# Altium integrated library B3FS-1010P.IntLib: 1 symbol
Pins are listed as number, name and electrical type; pins without a type are passive.

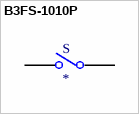
[diagram p0: symbol B3FS-1010P]

## B3FS-1010P
designator S
Tactile Switch SPST-NO Top Actuated Surface Mount; MP: B3FS-1010P; MF: Omron Electronics; Package: None; Value: *; Digi-Key_Purchase_URL: https://www.digikey.com/product-detail/en/omron-electronics-inc-emc-div/B3FS-1010P/SW1440CT-ND/2764639?utm_source=snapeda&utm_medium=aggregator&utm_campaign=symbol; Digi-Key_Part_Number: SW1440CT-ND; SnapEDA_Link: https://www.snapeda.com/parts/B3FS-1010P/Omron%20Electronics%20Inc-EMC%20Div/view-part/492145/?ref=snap
footprint SW_B3FS-1010P
pins: 1, 2 1, 3 2, 4 2